# Altium schematic symbol library st-mpu.SchLib: 15 symbols (part 2 of 2)
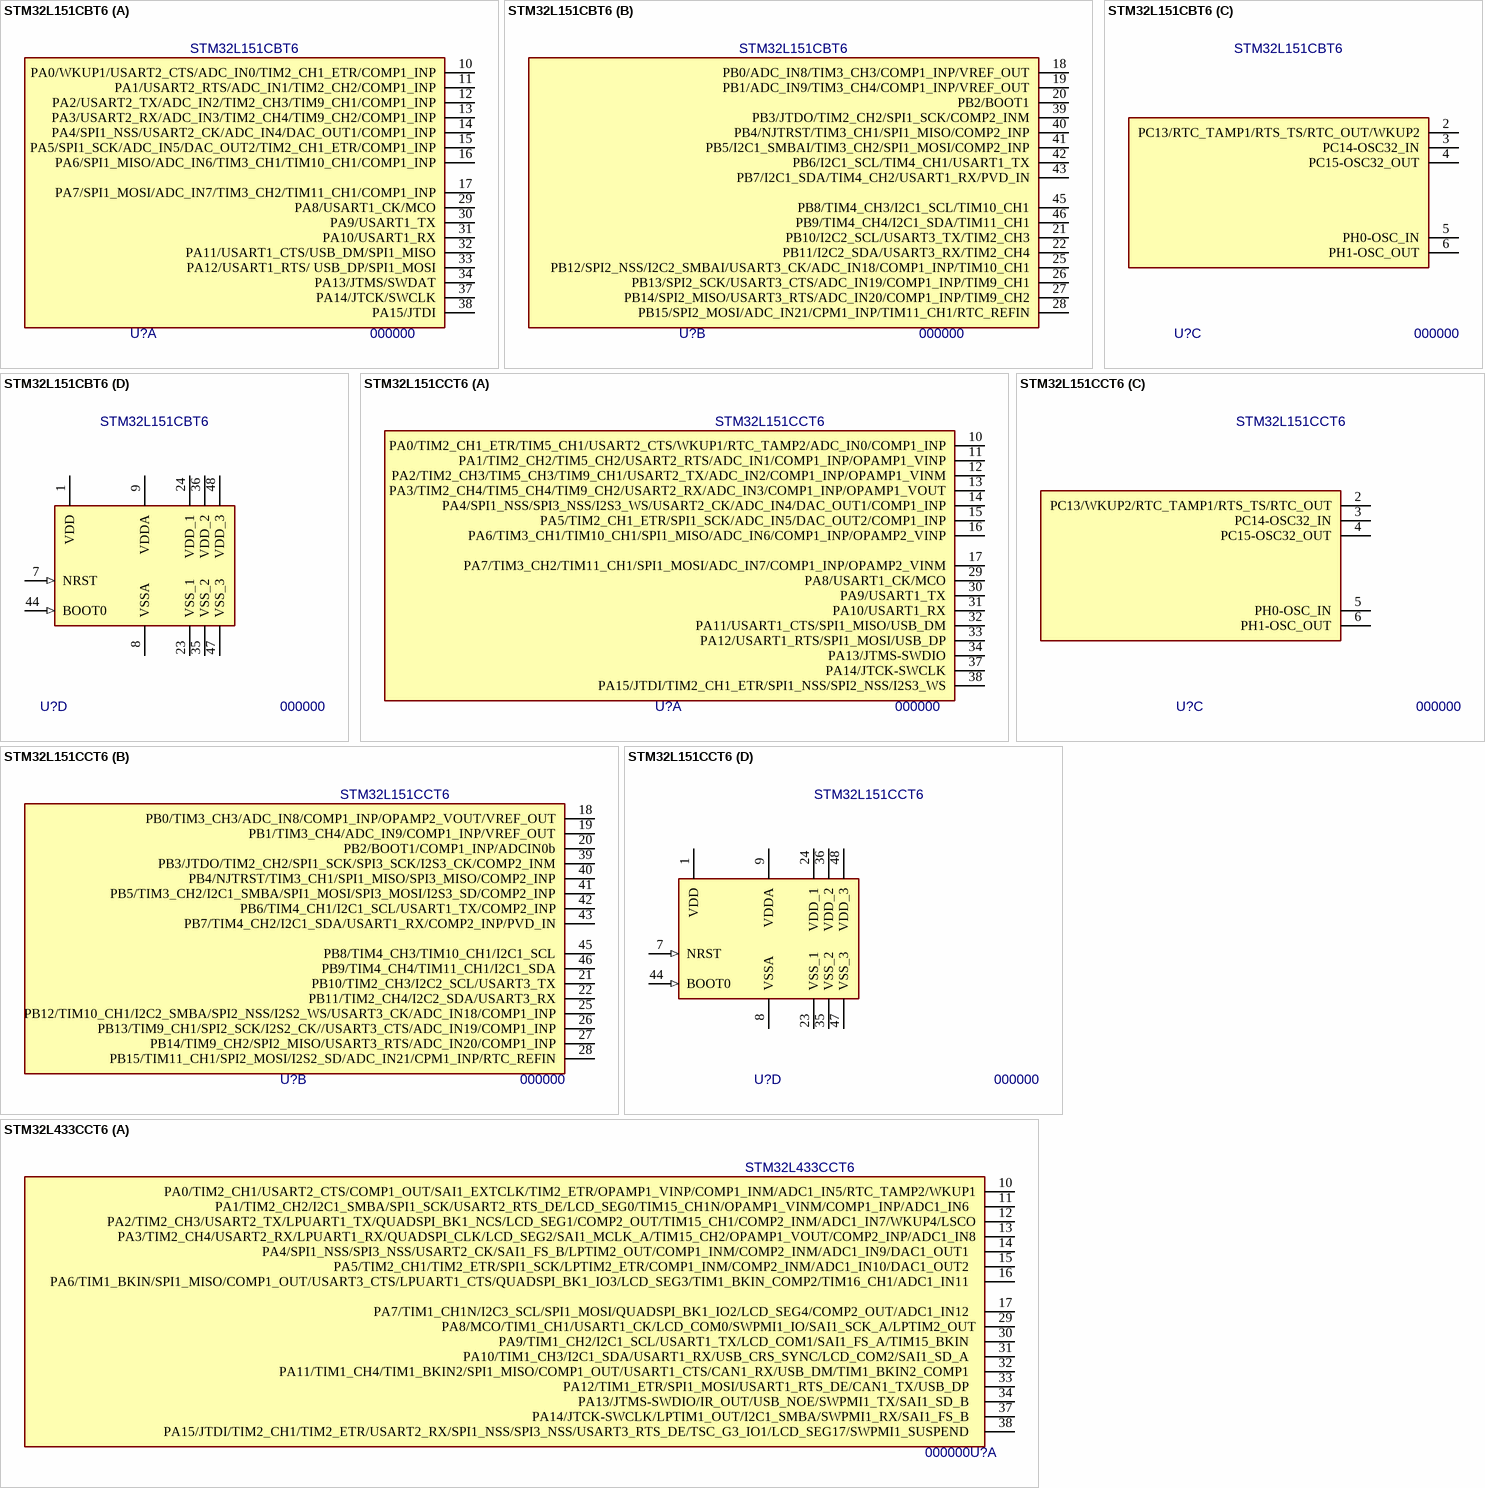
[diagram p13: symbols STM32L151CBT6 to STM32L433CCT6]

## STM32L151CBT6
designator U?, comment 000000  value STM32L151CBT6
ARM Cortex-M3,  128KB Flash, 16KB RAM; MF: STMicroelectronics; Package: LQFP48; PN: 000000; ExtraInfo: *; MF PN: STM32L151CBT6
footprint LQFP48 (TSQFP, 48-Leads, Body 9.0x8.0mm (max), Pitch 0.50mm, IPC Medium Density)
part A pins: 10 PA0/WKUP1/USART2_CTS/ADC_IN0/TIM2_CH1_ETR/COMP1_INP (hiz), 11 PA1/USART2_RTS/ADC_IN1/TIM2_CH2/COMP1_INP (hiz), 12 PA2/USART2_TX/ADC_IN2/TIM2_CH3/TIM9_CH1/COMP1_INP (hiz), 13 PA3/USART2_RX/ADC_IN3/TIM2_CH4/TIM9_CH2/COMP1_INP (hiz), 14 PA4/SPI1_NSS/USART2_CK/ADC_IN4/DAC_OUT1/COMP1_INP (hiz), 15 PA5/SPI1_SCK/ADC_IN5/DAC_OUT2/TIM2_CH1_ETR/COMP1_INP (hiz), 16 PA6/SPI1_MISO/ADC_IN6/TIM3_CH1/TIM10_CH1/COMP1_INP (hiz), 17 PA7/SPI1_MOSI/ADC_IN7/TIM3_CH2/TIM11_CH1/COMP1_INP (hiz), 29 PA8/USART1_CK/MCO (hiz), 30 PA9/USART1_TX (hiz), 31 PA10/USART1_RX (hiz), 32 PA11/USART1_CTS/USB_DM/SPI1_MISO (hiz), 33 PA12/USART1_RTS/ USB_DP/SPI1_MOSI (hiz), 34 PA13/JTMS/SWDAT (hiz), 37 PA14/JTCK/SWCLK (hiz), 38 PA15/JTDI (hiz)
part B pins: 18 PB0/ADC_IN8/TIM3_CH3/COMP1_INP/VREF_OUT (hiz), 19 PB1/ADC_IN9/TIM3_CH4/COMP1_INP/VREF_OUT (hiz), 20 PB2/BOOT1 (hiz), 21 PB10/I2C2_SCL/USART3_TX/TIM2_CH3 (hiz), 22 PB11/I2C2_SDA/USART3_RX/TIM2_CH4 (hiz), 25 PB12/SPI2_NSS/I2C2_SMBAI/USART3_CK/ADC_IN18/COMP1_INP/TIM10_CH1 (hiz), 26 PB13/SPI2_SCK/USART3_CTS/ADC_IN19/COMP1_INP/TIM9_CH1 (hiz), 27 PB14/SPI2_MISO/USART3_RTS/ADC_IN20/COMP1_INP/TIM9_CH2 (hiz), 28 PB15/SPI2_MOSI/ADC_IN21/CPM1_INP/TIM11_CH1/RTC_REFIN (hiz), 39 PB3/JTDO/TIM2_CH2/SPI1_SCK/COMP2_INM (hiz), 40 PB4/NJTRST/TIM3_CH1/SPI1_MISO/COMP2_INP (hiz), 41 PB5/I2C1_SMBAI/TIM3_CH2/SPI1_MOSI/COMP2_INP (hiz), 42 PB6/I2C1_SCL/TIM4_CH1/USART1_TX (hiz), 43 PB7/I2C1_SDA/TIM4_CH2/USART1_RX/PVD_IN (hiz), 45 PB8/TIM4_CH3/I2C1_SCL/TIM10_CH1 (hiz), 46 PB9/TIM4_CH4/I2C1_SDA/TIM11_CH1 (hiz)
part C pins: 2 PC13/RTC_TAMP1/RTS_TS/RTC_OUT/WKUP2 (hiz), 3 PC14-OSC32_IN (hiz), 4 PC15-OSC32_OUT (hiz), 5 PH0-OSC_IN (hiz), 6 PH1-OSC_OUT (hiz)
part D pins: 1 VDD (power), 7 NRST (in), 8 VSSA (power), 9 VDDA (power), 23 VSS_1 (power), 24 VDD_1 (power), 35 VSS_2 (power), 36 VDD_2 (power), 44 BOOT0 (in), 47 VSS_3 (power), 48 VDD_3 (power)
1 alternate drawing of the same symbol

## STM32L151CCT6
designator U?, comment 000000  value STM32L151CCT6
ARM Cortex-M3,  256KB Flash, 32KB RAM; MF: STMicroelectronics; Package: LQFP48; PN: 000000; ExtraInfo: *; MF PN: STM32L151CCT6
footprint LQFP48 (TSQFP, 48-Leads, Body 9.0x8.0mm (max), Pitch 0.50mm, IPC Medium Density)
part A pins: 10 PA0/TIM2_CH1_ETR/TIM5_CH1/USART2_CTS/WKUP1/RTC_TAMP2/ADC_IN0/COMP1_INP (hiz), 11 PA1/TIM2_CH2/TIM5_CH2/USART2_RTS/ADC_IN1/COMP1_INP/OPAMP1_VINP (hiz), 12 PA2/TIM2_CH3/TIM5_CH3/TIM9_CH1/USART2_TX/ADC_IN2/COMP1_INP/OPAMP1_VINM (hiz), 13 PA3/TIM2_CH4/TIM5_CH4/TIM9_CH2/USART2_RX/ADC_IN3/COMP1_INP/OPAMP1_VOUT (hiz), 14 PA4/SPI1_NSS/SPI3_NSS/I2S3_WS/USART2_CK/ADC_IN4/DAC_OUT1/COMP1_INP (hiz), 15 PA5/TIM2_CH1_ETR/SPI1_SCK/ADC_IN5/DAC_OUT2/COMP1_INP (hiz), 16 PA6/TIM3_CH1/TIM10_CH1/SPI1_MISO/ADC_IN6/COMP1_INP/OPAMP2_VINP (hiz), 17 PA7/TIM3_CH2/TIM11_CH1/SPI1_MOSI/ADC_IN7/COMP1_INP/OPAMP2_VINM (hiz), 29 PA8/USART1_CK/MCO (hiz), 30 PA9/USART1_TX (hiz), 31 PA10/USART1_RX (hiz), 32 PA11/USART1_CTS/SPI1_MISO/USB_DM (hiz), 33 PA12/USART1_RTS/SPI1_MOSI/USB_DP (hiz), 34 PA13/JTMS-SWDIO (hiz), 37 PA14/JTCK-SWCLK (hiz), 38 PA15/JTDI/TIM2_CH1_ETR/SPI1_NSS/SPI2_NSS/I2S3_WS (hiz)
part B pins: 18 PB0/TIM3_CH3/ADC_IN8/COMP1_INP/OPAMP2_VOUT/VREF_OUT (hiz), 19 PB1/TIM3_CH4/ADC_IN9/COMP1_INP/VREF_OUT (hiz), 20 PB2/BOOT1/COMP1_INP/ADCIN0b (hiz), 21 PB10/TIM2_CH3/I2C2_SCL/USART3_TX (hiz), 22 PB11/TIM2_CH4/I2C2_SDA/USART3_RX (hiz), 25 PB12/TIM10_CH1/I2C2_SMBA/SPI2_NSS/I2S2_WS/USART3_CK/ADC_IN18/COMP1_INP (hiz), 26 PB13/TIM9_CH1/SPI2_SCK/I2S2_CK//USART3_CTS/ADC_IN19/COMP1_INP (hiz), 27 PB14/TIM9_CH2/SPI2_MISO/USART3_RTS/ADC_IN20/COMP1_INP (hiz), 28 PB15/TIM11_CH1/SPI2_MOSI/I2S2_SD/ADC_IN21/CPM1_INP/RTC_REFIN (hiz), 39 PB3/JTDO/TIM2_CH2/SPI1_SCK/SPI3_SCK/I2S3_CK/COMP2_INM (hiz), 40 PB4/NJTRST/TIM3_CH1/SPI1_MISO/SPI3_MISO/COMP2_INP (hiz), 41 PB5/TIM3_CH2/I2C1_SMBA/SPI1_MOSI/SPI3_MOSI/I2S3_SD/COMP2_INP (hiz), 42 PB6/TIM4_CH1/I2C1_SCL/USART1_TX/COMP2_INP (hiz), 43 PB7/TIM4_CH2/I2C1_SDA/USART1_RX/COMP2_INP/PVD_IN (hiz), 45 PB8/TIM4_CH3/TIM10_CH1/I2C1_SCL (hiz), 46 PB9/TIM4_CH4/TIM11_CH1/I2C1_SDA (hiz)
part C pins: 2 PC13/WKUP2/RTC_TAMP1/RTS_TS/RTC_OUT (hiz), 3 PC14-OSC32_IN (hiz), 4 PC15-OSC32_OUT (hiz), 5 PH0-OSC_IN (hiz), 6 PH1-OSC_OUT (hiz)
part D pins: 1 VDD (power), 7 NRST (in), 8 VSSA (power), 9 VDDA (power), 23 VSS_1 (power), 24 VDD_1 (power), 35 VSS_2 (power), 36 VDD_2 (power), 44 BOOT0 (in), 47 VSS_3 (power), 48 VDD_3 (power)
1 alternate drawing of the same symbol

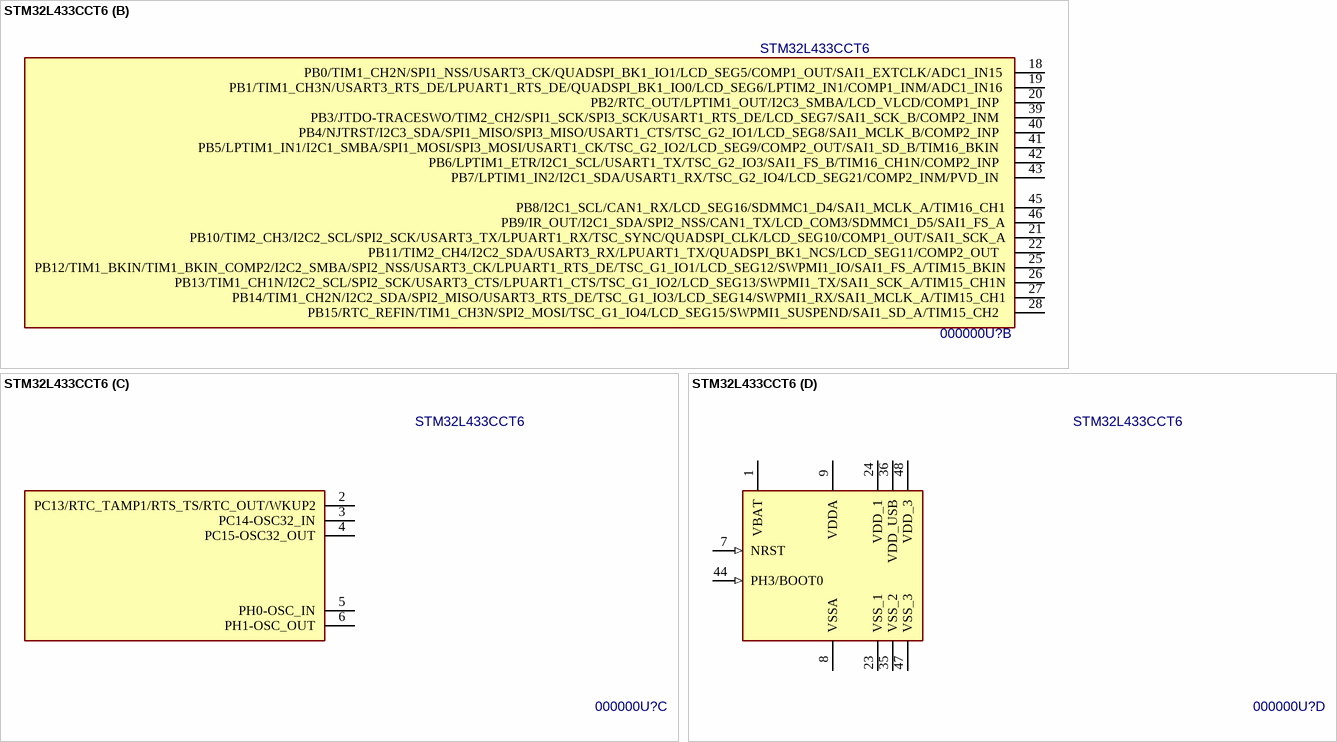
[diagram p12: symbol STM32L433CCT6]

## STM32L433CCT6
designator U?, comment 000000  value STM32L433CCT6
ARM Cortex-M4,  256KB Flash, 364KB RAM; MF: STMicroelectronics; Package: LQFP48; PN: 000000; ExtraInfo: *; MF PN: STM32L433CCT6
footprint LQFP48 (TSQFP, 48-Leads, Body 9.0x8.0mm (max), Pitch 0.50mm, IPC Medium Density)
part A pins: 10 PA0/TIM2_CH1/USART2_CTS/COMP1_OUT/SAI1_EXTCLK/TIM2_ETR/OPAMP1_VINP/COMP1_INM/ADC1_IN5/RTC_TAMP2/WKUP1 (hiz), 11 PA1/TIM2_CH2/I2C1_SMBA/SPI1_SCK/USART2_RTS_DE/LCD_SEG0/TIM15_CH1N/OPAMP1_VINM/COMP1_INP/ADC1_IN6   (hiz), 12 PA2/TIM2_CH3/USART2_TX/LPUART1_TX/QUADSPI_BK1_NCS/LCD_SEG1/COMP2_OUT/TIM15_CH1/COMP2_INM/ADC1_IN7/WKUP4/LSCO (hiz), 13 PA3/TIM2_CH4/USART2_RX/LPUART1_RX/QUADSPI_CLK/LCD_SEG2/SAI1_MCLK_A/TIM15_CH2/OPAMP1_VOUT/COMP2_INP/ADC1_IN8 (hiz), 14 PA4/SPI1_NSS/SPI3_NSS/USART2_CK/SAI1_FS_B/LPTIM2_OUT/COMP1_INM/COMP2_INM/ADC1_IN9/DAC1_OUT1   (hiz), 15 PA5/TIM2_CH1/TIM2_ETR/SPI1_SCK/LPTIM2_ETR/COMP1_INM/COMP2_INM/ADC1_IN10/DAC1_OUT2   (hiz), 16 PA6/TIM1_BKIN/SPI1_MISO/COMP1_OUT/USART3_CTS/LPUART1_CTS/QUADSPI_BK1_IO3/LCD_SEG3/TIM1_BKIN_COMP2/TIM16_CH1/ADC1_IN11   (hiz), 17 PA7/TIM1_CH1N/I2C3_SCL/SPI1_MOSI/QUADSPI_BK1_IO2/LCD_SEG4/COMP2_OUT/ADC1_IN12   (hiz), 29 PA8/MCO/TIM1_CH1/USART1_CK/LCD_COM0/SWPMI1_IO/SAI1_SCK_A/LPTIM2_OUT (hiz), 30 PA9/TIM1_CH2/I2C1_SCL/USART1_TX/LCD_COM1/SAI1_FS_A/TIM15_BKIN   (hiz), 31 PA10/TIM1_CH3/I2C1_SDA/USART1_RX/USB_CRS_SYNC/LCD_COM2/SAI1_SD_A   (hiz), 32 PA11/TIM1_CH4/TIM1_BKIN2/SPI1_MISO/COMP1_OUT/USART1_CTS/CAN1_RX/USB_DM/TIM1_BKIN2_COMP1   (hiz), 33 PA12/TIM1_ETR/SPI1_MOSI/USART1_RTS_DE/CAN1_TX/USB_DP   (hiz), 34 PA13/JTMS-SWDIO/IR_OUT/USB_NOE/SWPMI1_TX/SAI1_SD_B   (hiz), 37 PA14/JTCK-SWCLK/LPTIM1_OUT/I2C1_SMBA/SWPMI1_RX/SAI1_FS_B   (hiz), 38 PA15/JTDI/TIM2_CH1/TIM2_ETR/USART2_RX/SPI1_NSS/SPI3_NSS/USART3_RTS_DE/TSC_G3_IO1/LCD_SEG17/SWPMI1_SUSPEND   (hiz)
part B pins: 18 PB0/TIM1_CH2N/SPI1_NSS/USART3_CK/QUADSPI_BK1_IO1/LCD_SEG5/COMP1_OUT/SAI1_EXTCLK/ADC1_IN15  (hiz), 19 PB1/TIM1_CH3N/USART3_RTS_DE/LPUART1_RTS_DE/QUADSPI_BK1_IO0/LCD_SEG6/LPTIM2_IN1/COMP1_INM/ADC1_IN16  (hiz), 20 PB2/RTC_OUT/LPTIM1_OUT/I2C3_SMBA/LCD_VLCD/COMP1_INP   (hiz), 21 PB10/TIM2_CH3/I2C2_SCL/SPI2_SCK/USART3_TX/LPUART1_RX/TSC_SYNC/QUADSPI_CLK/LCD_SEG10/COMP1_OUT/SAI1_SCK_A (hiz), 22 PB11/TIM2_CH4/I2C2_SDA/USART3_RX/LPUART1_TX/QUADSPI_BK1_NCS/LCD_SEG11/COMP2_OUT   (hiz), 25 PB12/TIM1_BKIN/TIM1_BKIN_COMP2/I2C2_SMBA/SPI2_NSS/USART3_CK/LPUART1_RTS_DE/TSC_G1_IO1/LCD_SEG12/SWPMI1_IO/SAI1_FS_A/TIM15_BKIN (hiz), 26 PB13/TIM1_CH1N/I2C2_SCL/SPI2_SCK/USART3_CTS/LPUART1_CTS/TSC_G1_IO2/LCD_SEG13/SWPMI1_TX/SAI1_SCK_A/TIM15_CH1N (hiz), 27 PB14/TIM1_CH2N/I2C2_SDA/SPI2_MISO/USART3_RTS_DE/TSC_G1_IO3/LCD_SEG14/SWPMI1_RX/SAI1_MCLK_A/TIM15_CH1 (hiz), 28 PB15/RTC_REFIN/TIM1_CH3N/SPI2_MOSI/TSC_G1_IO4/LCD_SEG15/SWPMI1_SUSPEND/SAI1_SD_A/TIM15_CH2   (hiz), 39 PB3/JTDO-TRACESWO/TIM2_CH2/SPI1_SCK/SPI3_SCK/USART1_RTS_DE/LCD_SEG7/SAI1_SCK_B/COMP2_INM   (hiz), 40 PB4/NJTRST/I2C3_SDA/SPI1_MISO/SPI3_MISO/USART1_CTS/TSC_G2_IO1/LCD_SEG8/SAI1_MCLK_B/COMP2_INP   (hiz), 41 PB5/LPTIM1_IN1/I2C1_SMBA/SPI1_MOSI/SPI3_MOSI/USART1_CK/TSC_G2_IO2/LCD_SEG9/COMP2_OUT/SAI1_SD_B/TIM16_BKIN   (hiz), 42 PB6/LPTIM1_ETR/I2C1_SCL/USART1_TX/TSC_G2_IO3/SAI1_FS_B/TIM16_CH1N/COMP2_INP   (hiz), 43 PB7/LPTIM1_IN2/I2C1_SDA/USART1_RX/TSC_G2_IO4/LCD_SEG21/COMP2_INM/PVD_IN   (hiz), 45 PB8/I2C1_SCL/CAN1_RX/LCD_SEG16/SDMMC1_D4/SAI1_MCLK_A/TIM16_CH1 (hiz), 46 PB9/IR_OUT/I2C1_SDA/SPI2_NSS/CAN1_TX/LCD_COM3/SDMMC1_D5/SAI1_FS_A (hiz)
part C pins: 2 PC13/RTC_TAMP1/RTS_TS/RTC_OUT/WKUP2 (hiz), 3 PC14-OSC32_IN (hiz), 4 PC15-OSC32_OUT (hiz), 5 PH0-OSC_IN (hiz), 6 PH1-OSC_OUT (hiz)
part D pins: 1 VBAT (power), 7 NRST (in), 8 VSSA (power), 9 VDDA (power), 23 VSS_1 (power), 24 VDD_1 (power), 35 VSS_2 (power), 36 VDD_USB (power), 44 PH3/BOOT0 (in), 47 VSS_3 (power), 48 VDD_3 (power)
1 alternate drawing of the same symbol